# Altium schematic symbol library micron.SchLib: 3 symbols
Pins are listed as number, name and electrical type; pins without a type are passive.

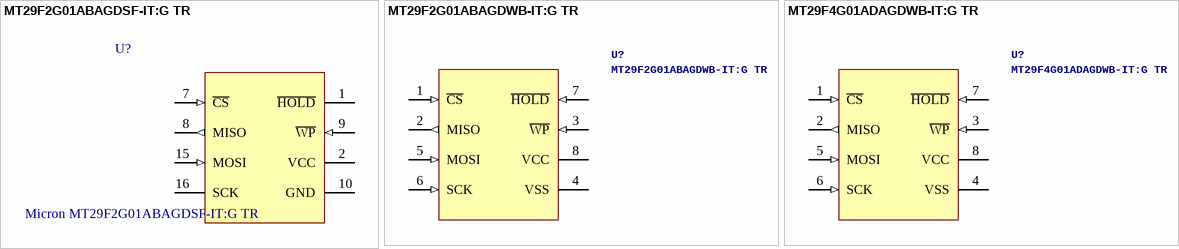
[diagram p0: symbols MT29F2G01ABAGDSF-IT:G TR to MT29F4G01ADAGDWB-IT:G TR]

## MT29F2G01ABAGDSF-IT:G TR
designator U?, comment Micron MT29F2G01ABAGDSF-IT:G TR
IC Flash 2GB (SOIC16); Octopart URL: https://octopart.com/mt29f2g01abagdsf-it%3Ag+tr-micron-75449109; Footprint: PCB-fsjzrozcjfbt61zscotr-1; Lifecycle Status: Not Listed by Manufacturer; OctopartID: 78b4b5c11ec7a773; Manufacturer Part Number: MT29F2G01ABAGDSF-IT:G TR
footprint SOIC16_MT29F2G01
footprint SOIC16_MT29F2G01_HAND
footprint SOIC16_MT29F2G01_L
pins: 1 ~{HOLD}, 2 VCC (power), 7 ~{CS} (in), 8 MISO (out), 9 ~{WP} (in), 10 GND (power), 15 MOSI (in), 16 SCK

## MT29F2G01ABAGDWB-IT:G TR
designator U?
IC Flash 2GB (UDFN8); Manufacturer_Name: Micron; SymbolName_1: MT29F2G01ABAGDWB-IT:G TR; DeviceName: IC Flash 2GB (UDFN8); LibraryName: MT29F2G01ABAGDWB-IT:G TR; DeviceSetName: MT29F2G01ABAGDWB-IT:G TR; Manufacturer_Part_Number: MT29F2G01ABAGDWB-IT:G TR; Height: 0.65mm
footprint 8-UDFN-MT29F (8-U-PDFN (8x6))
pins: 1 ~{CS} (in), 2 MISO (out), 3 ~{WP} (in), 4 VSS (power), 5 MOSI (in), 6 SCK (in), 7 ~{HOLD} (in), 8 VCC (power)

## MT29F4G01ADAGDWB-IT:G TR
designator U?
IC Flash 4GB (UDFN8); Manufacturer_Name: Micron; SymbolName_1: MT29F4G01ADAGDWB-IT:G TR; DeviceName: IC Flash 4GB (UDFN8); LibraryName: MT29F4G01ADAGDWB-IT:G TR; DeviceSetName: MT29F4G01ADAGDWB-IT:G TR; Manufacturer Part Number: MT29F4G01ADAGDWB-IT:G TR; Height: 0.65mm
footprint 8-UDFN-MT29F (8-U-PDFN (8x6))
pins: 1 ~{CS} (in), 2 MISO (out), 3 ~{WP} (in), 4 VSS (power), 5 MOSI (in), 6 SCK (in), 7 ~{HOLD} (in), 8 VCC (power)